# EAGLE library part TLV9304 (library 31813 Neutron Readout PCB)
Texas Instruments TLV9304 Opamp
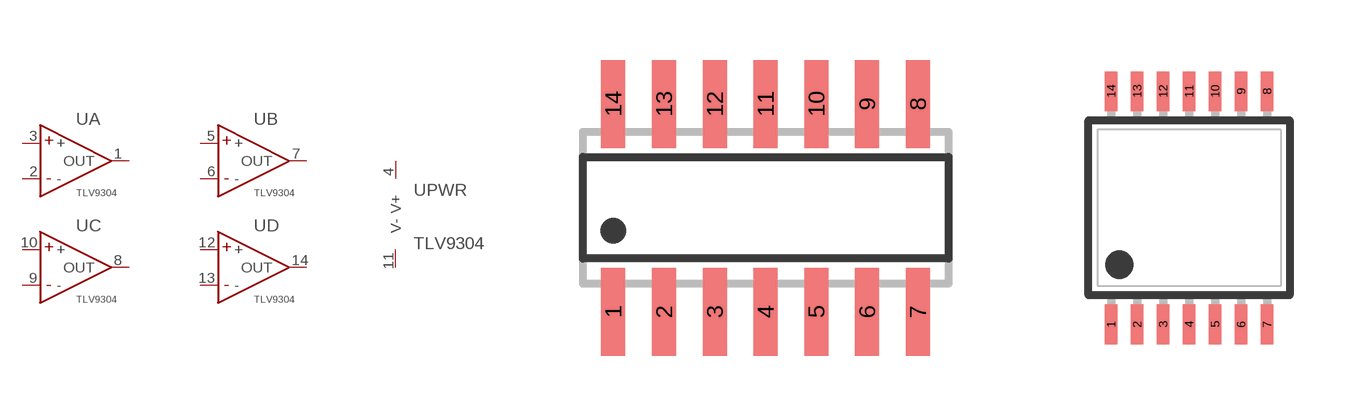
[diagram p16: symbol with the pads of SO14; footprints SO14, TSSOP14]

Designator prefix U; gates A=OPAMP B=OPAMP C=OPAMP D=OPAMP PWR=OPAMP-PWR

## TLV9304IDR  [SO14]
1  A:OUT  out
2  A:-  in
3  A:+  in
4  PWR:V+  pwr
5  B:+  in
6  B:-  in
7  B:OUT  out
8  C:OUT  out
9  C:-  in
10  C:+  in
11  PWR:V-  pwr
12  D:+  in
13  D:-  in
14  D:OUT  out

## TLV9304IPWR  [TSSOP14]
Pads as for SO14

## Footprint SO14 (pad centres in mm)
SMALL OUTLINE INTEGRATED CIRCUIT body 3.9 mm/JEDEC MS-012AC
smd 0.6 x 2.2: 1 -3.81,-2.6; 2 -2.54,-2.6; 3 -1.27,-2.6; 4 0,-2.6; 5 1.27,-2.6; 6 2.54,-2.6; 7 3.81,-2.6; 8 3.81,2.6; 9 2.54,2.6; 10 1.27,2.6; 11 0,2.6; 12 -1.27,2.6; 13 -2.54,2.6; 14 -3.81,2.6

## Footprint TSSOP14 (pad centres in mm)
Thin Shrink Small Outline Plastic 14
smd 0.305 x 0.991: 1 -1.95,-2.918; 2 -1.3,-2.918; 3 -0.65,-2.918; 4 0,-2.918; 5 0.65,-2.918; 6 1.3,-2.918; 7 1.95,-2.918; 8 1.95,2.918; 9 1.3,2.918; 10 0.65,2.918; 11 0,2.918; 12 -0.65,2.918; 13 -1.3,2.918; 14 -1.95,2.918